# Altium footprint library USBconnect.PcbLib: 7 footprints
Each footprint in its own frame and in the unit in brackets; x right, y up, seen from the top. Pads: shape width x height; smd on the part's side, far side on the other; paste and mask are expansions set on the pad; w line width, h text height; cw(c..) or ccw(c..) is an arc to the next point about the centre after c.
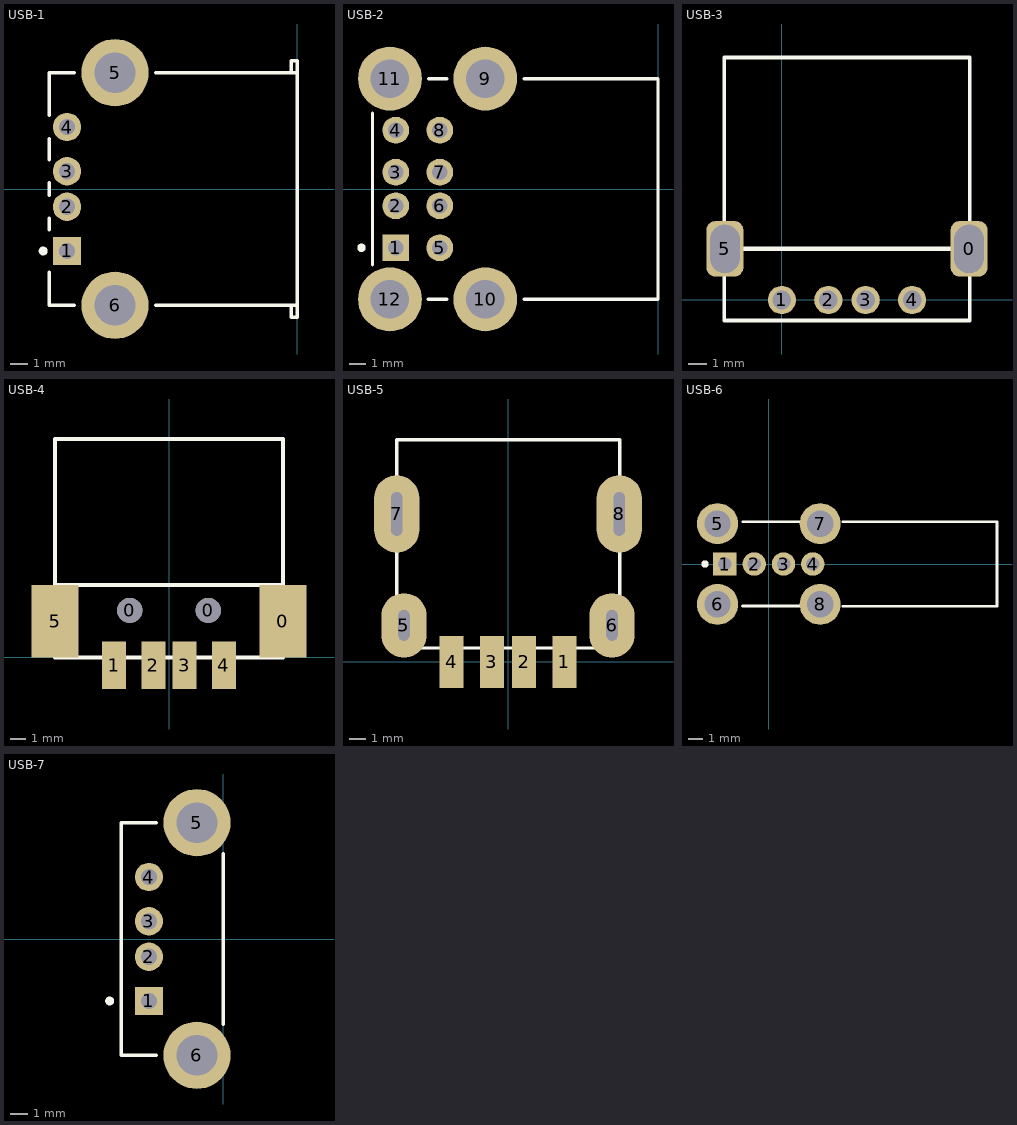
[diagram p0: the footprints below, top view; thin cyan lines are the x and y axes]

## USB-1 [mm] "Connector; USB1.1, Type A, Thru-Hole; 4 Position; Right Angle"
height 7.01
pads (6):
  rect 1.6x1.6 hole 0.92: 1(-12.99,-3.5)
  round 1.6 hole 0.92: 2(-12.99,-1) 3(-12.99,1) 4(-12.99,3.5)
  round 3.8 hole 2.3: 5(-10.28,6.57) 6(-10.28,-6.57)
Top Overlay:
  circle w0.25: c-14.34,-3.5 r0.125
  lines w0.2: -14,-4.7 -14,-6.565 -12.58,-6.565 ; -14,-2.3 -14,-1.66 ; -14,-0.34 -14,0.34 ; -14,1.66 -14,2.84 ; -14,4.16 -14,6.565 -12.58,6.565 ; -7.98,-6.565 0,-6.565 ; -7.98,6.565 0,6.565 ; -0.32,-6.565 -0.32,-7.25 0,-7.25 0,-6.565 ; -0.32,6.565 -0.32,7.25 0,7.25 0,6.565 ; 0,-6.565 0,6.565
3D body "usb_a-usbsa.stp": height 7.5, standoff -4, extent -14.025,-7.85 0.175,7.75

## USB-2 [mm] "Connector; USB1.1, Type A, Thru-Hole; 4x4 Position; Right Angle"
height 15.51
pads (12):
  rect 1.6x1.6 hole 0.92: 1(-15.61,-3.5)
  round 1.6 hole 0.92: 2(-15.61,-1) 3(-15.61,1) 4(-15.61,3.5) 5(-12.99,-3.5) 6(-12.99,-1) 7(-12.99,1) 8(-12.99,3.5)
  round 3.8 hole 2.3: 9(-10.28,6.57) 10(-10.28,-6.57) 11(-15.96,6.57) 12(-15.96,-6.57)
Top Overlay:
  circle w0.25: c-17.65,-3.5 r0.125
  lines w0.2: -17,-4.51 -17,4.51 ; -13.68,-6.565 -12.58,-6.565 ; -13.66,6.565 -12.58,6.565 ; -7.97,-6.565 0,-6.565 0,6.565 -7.97,6.565
3D body "723095044blf.stp": height 16.19, standoff -2.79, extent -17.31,-7.525 0.889,7.475

## USB-3 [mm]
pads (6):
  rrect50% 2x3 hole 1.6 slot 2.6 at 90 deg: 0(10.07,2.75) 5(-3.07,2.75)
  round 1.524 hole 1: 1(0,0) 2(2.5,0) 3(4.5,0) 4(7,0)
Top Overlay:
  lines w0.2: -3.1,-1.11 10.1,-1.11 10.1,13.05 -3.1,13.05 -3.1,-1.11
  lines w0.254: -3.1,2.75 10.1,2.75
3D body "usb_a-usbsa.stp": height 7.5, standoff -4, extent -4.3,-0.925 11.3,13.275

## USB-4 [mm]
pads (8):
  round 1.6 hole 1.6: 0(-2.5,3) 0(2.5,3)
  rect 3x4.6 smd: 0(7.25,2.3) 5(-7.25,2.3)
  rect 1.524x3 smd: 1(-3.5,-0.5) 2(-1,-0.5) 3(1,-0.5) 4(3.5,-0.5)
Top Overlay:
  lines w0.254: -7.25,4.6 7.25,4.6 ; -7.25,0 -7.25,13.9 7.25,13.9 7.25,0 -7.25,0
3D body "USB Onboard.step": height 7.6, standoff 0.1, extent -8.2,-1.975 8.2,13.635

## USB-5 [mm]
pads (8):
  rect 1.5x3.25 smd: 1(3.5,0) 2(1,0) 3(-1,0) 4(-3.5,0)
  oval 2.8x4 hole 0.7 slot 1.9 at 90 deg: 5(-6.45,2.27) 6(6.45,2.27)
  oval 2.8x4.8 hole 0.7 slot 2.7 at 90 deg: 7(-6.9,9.18) 8(6.9,9.18)
Top Overlay:
  lines w0.2: -6.9,0.875 -6.9,13.775 6.925,13.775 6.925,0.875 -6.9,0.875
3D body "c-1932638-3-e-3d.stp": height 7.63, standoff -1.23, extent -7.305,-1.195 7.325,13.745

## USB-6 [mm] "Connector; USB1.1, Type A, Thru-Hole; 4 Position; Right Angle"
height 13.83
pads (8):
  rect 1.6x1.6 hole 0.92: 1(-3,0)
  round 1.6 hole 0.92: 2(-1,0) 3(1,0) 4(3,0)
  round 2.8 hole 1.8: 5(-3.5,2.75) 6(-3.5,-2.75) 7(3.5,2.75) 8(3.5,-2.75)
Top Overlay:
  circle w0.25: c-4.35,0 r0.125
  lines w0.2: -1.796,-2.872 2.359,-2.866 ; -1.749,2.88 2.359,2.87 ; 5.05,2.88 15.56,2.88 15.56,-2.88 5.063,-2.88
3D body "usb_2_a_90_v.stp": height 14.75, standoff -3.45, extent -3.965,-3.5 15.285,3.5

## USB-7 [mm] "Connector; USB1.1, Type A, Thru-Hole; 4 Position; Vertical"
height 15
pads (6):
  rect 1.6x1.6 hole 0.92: 1(-4.19,-3.5)
  round 1.6 hole 0.92: 2(-4.19,-1) 3(-4.19,1) 4(-4.19,3.5)
  round 3.8 hole 2.3: 5(-1.48,6.57) 6(-1.48,-6.57)
Top Overlay:
  circle w0.25: c-6.41,-3.5 r0.125
  lines w0.2: -3.78,-6.57 -5.76,-6.57 -5.76,6.57 -3.78,6.57 ; 0,-4.81 0,4.81
3D body "usb_2_a_180.stp": height 15.22, standoff -3.58, extent -5.77,-7.7 0.91,7.6